# Altium schematic symbol library TTL_TO_RS485.SchLib: 1 symbol
Pins are listed as number, name and electrical type; pins without a type are passive.

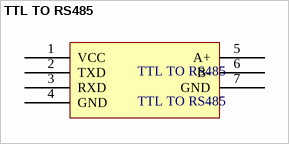
[diagram p0: symbol TTL TO RS485]

## TTL TO RS485
designator TTL TO RS485
footprint TTL TO RS485
pins: 1 VCC, 2 TXD, 3 RXD, 4 GND, 5 A+, 6 B-, 7 GND